# EAGLE library part LM3103 (library RoboJackets-PowerICs)
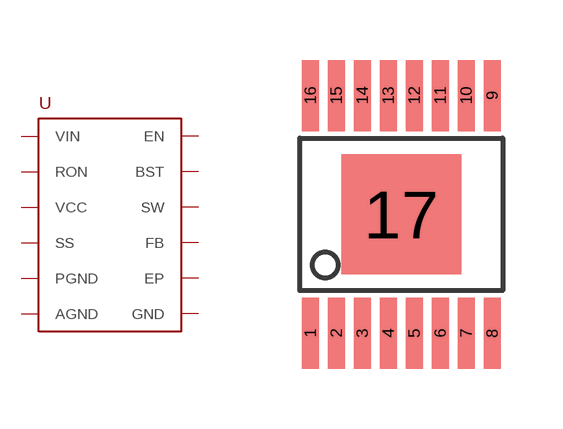
[diagram p6: symbol with the pads of HTSSOP-16; footprint HTSSOP-16]

Designator prefix U

## LM3103  [HTSSOP-16]
1  VIN
2  VIN
3  SW
4  SW
5  BST
6  AGND
7  SS
9  GND
10  GND
11  FB
12  EN
13  RON
14  VCC
15  PGND
16  PGND
17  EP

## Footprint HTSSOP-16 (pad centres in mm)
smd 0.42 x 1.78: 1 -2.275,-2.97; 2 -1.625,-2.97; 3 -0.975,-2.97; 4 -0.325,-2.97; 5 0.325,-2.97; 6 0.975,-2.97; 7 1.625,-2.97; 8 2.275,-2.97; 9 2.275,2.97; 10 1.625,2.97; 11 0.975,2.97; 12 0.325,2.97; 13 -0.325,2.97; 14 -0.975,2.97; 15 -1.625,2.97; 16 -2.275,2.97
smd 3 x 3: 17 0,0